# Altium footprint library Passiv.PcbLib: 8 footprints
Each footprint in its own frame and in the unit in brackets; x right, y up, seen from the top. Pads: shape width x height; smd on the part's side, far side on the other; paste and mask are expansions set on the pad; w line width, h text height; cw(c..) or ccw(c..) is an arc to the next point about the centre after c.
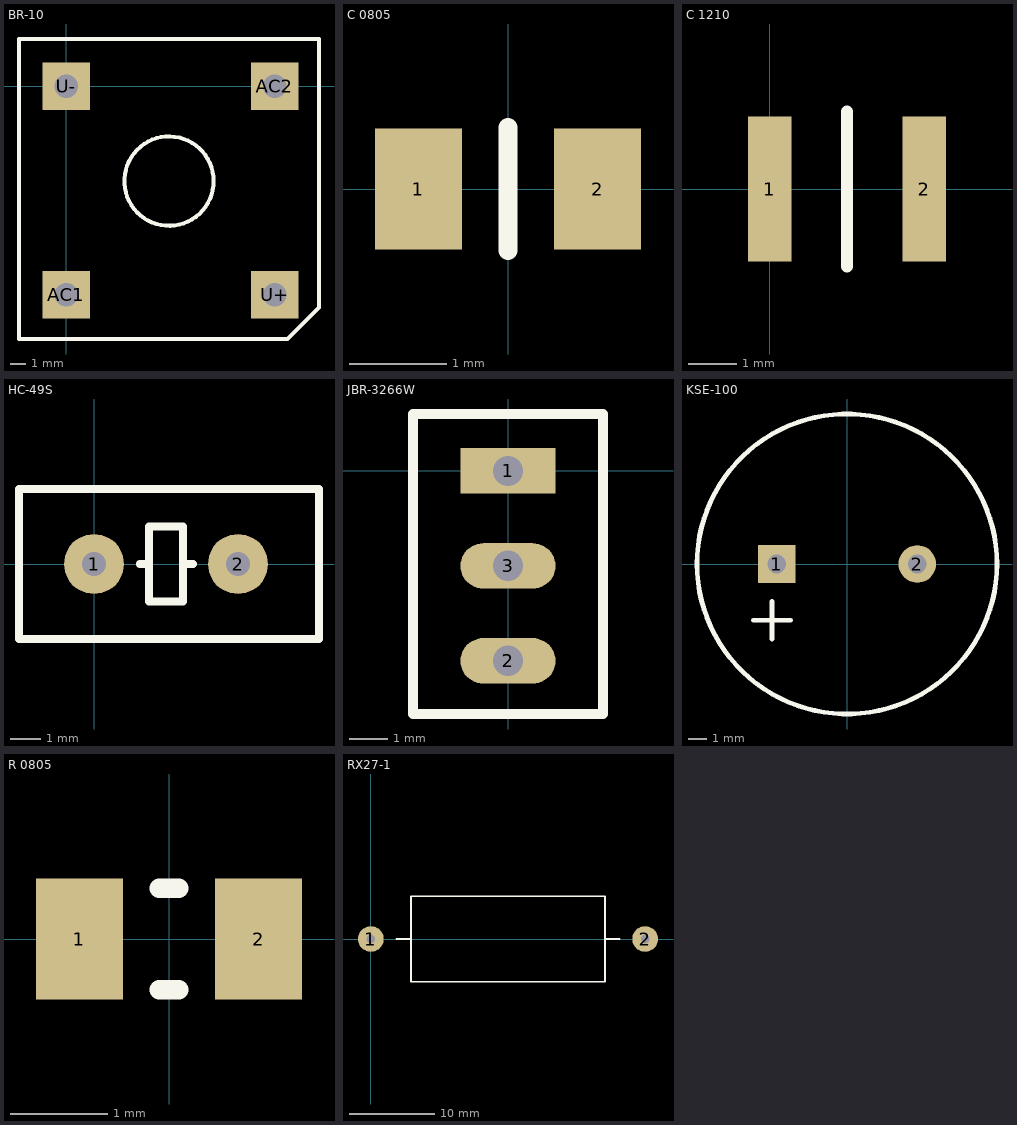
[diagram p0: the footprints below, top view; thin cyan lines are the x and y axes]

## BR-10 [mm]
pads (4):
  rect 3x3 hole 1.5: AC1(0,-13.2) AC2(13.2,0) U+(13.2,-13.2) U-(0,0)
Top Overlay:
  circle w0.254: c6.5,-6 r2.828
  lines w0.254: 14,-16 -3,-16 -3,3 16,3 16,-14 ; 14,-16 16,-14 ; 14,-16 16,-14

## C 0805 [mm] "C"
height 0.5
pads (2):
  rect 0.9x1.25 smd: 1(-0.925,0) 2(0.925,0)
Top Overlay:
  lines w0.2: 0,-0.635 0,0.635

## C 1210 [mm] "C"
height 0.5
pads (2):
  rect 0.9x3 smd: 1(0,0) 2(3.2,0)
Top Overlay:
  lines w0.254: 1.6,-1.6 1.6,0 1.6,1.6

## HC-49S [mm] "BQ"
pads (2):
  round 2 hole 0.8: 1(0,0) 2(4.8,0)
Top Overlay:
  lines w0.2: 1.835,1.25 1.835,-1.25 2.965,-1.25 2.965,1.25
  lines w0.254: 1.524,0 1.835,0 ; 2.965,0 3.302,0 ; -2.5,-2.5 -2.5,2.5 2.5,2.5 7.5,2.5 7.5,-2.5 -2.5,-2.5 ; 1.835,-1.25 1.835,1.25 2.965,1.25 2.965,-1.25 1.835,-1.25

## JBR-3266W [mm]
pads (3):
  rect 2.5x1.2 hole 0.8: 1(0,0)
  oval 2.5x1.2 hole 0.8: 2(0,-5) 3(0,-2.5)
Top Overlay:
  lines w0.254: -2.5,-6.4 -2.5,1.5 2.5,1.5 2.5,-6.4 -2.5,-6.4

## KSE-100 [mm]
pads (2):
  rect 2x2 hole 1: 1(-3.75,0)
  round 2 hole 1: 2(3.75,0)
Top Overlay:
  circle w0.254: c0,0 r8
  lines w0.254: -5,-3 -3,-3 ; -4,-4 -4,-2

## R 0805 [mm] "R"
height 0.5
pads (2):
  rect 0.9x1.25 smd: 1(-0.925,0) 2(0.925,0)
Top Overlay:
  lines w0.2: -0.1,-0.525 0.1,-0.525 ; -0.1,0.525 0.1,0.525

## RX27-1 [mm]
pads (2):
  round 3 hole 1: 1(0,0) 2(32,0)
Top Overlay:
  lines w0.2: 3,0 4.675,0 ; 27.325,0 29,0 ; 4.675,0 4.675,5 27.325,5 27.325,-5 4.675,-5 4.675,0